# Altium schematic symbol library Symbols.SchLib: 3 symbols
Pins are listed as number, name and electrical type; pins without a type are passive.

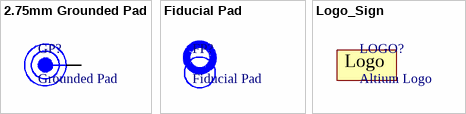
[diagram p0: symbols 2.75mm Grounded Pad to Logo_Sign]

## 2.75mm Grounded Pad
designator GP?, comment Grounded Pad
2.75mm Diameter Grounded Pad
footprint 2.75mm Grounded Pad
pins: 1

## Fiducial Pad
designator FP?
Fiduacila Pad for Better Assembling and Alighning
footprint Fiducial Pad

## Logo_Sign
designator LOGO?, comment Altium Logo
footprint Logo_Sign_Medium
text: Logo